# Altium schematic symbol library Schlib1.SchLib: 15 symbols
Pins are listed as number, name and electrical type; pins without a type are passive.

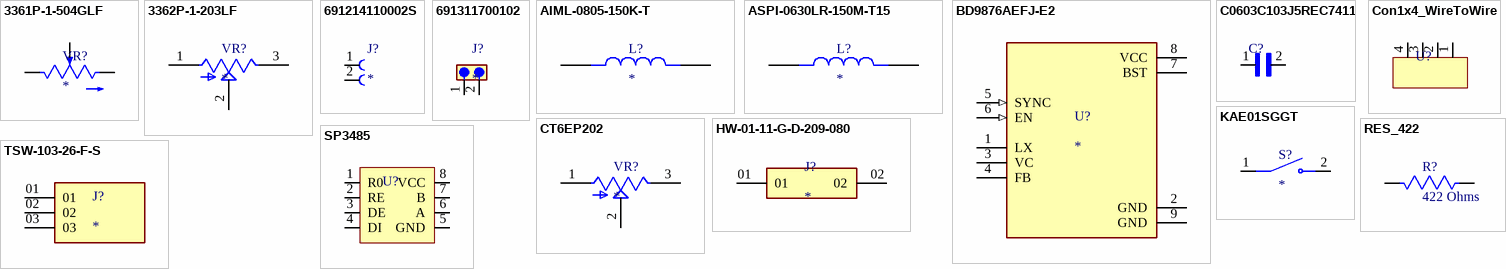
[diagram p0: symbols 3361P-1-504GLF to TSW-103-26-F-S]

## 3361P-1-504GLF
designator VR?
500 kOhms 0.5W, 1/2W Gull Wing Surface Mount Trimmer Potentiometer Cermet 1.0 Turn Top Adjustment; MF: Bourns; MP: 3361P-1-504GLF; Check_prices: https://www.snapeda.com/parts/3361P-1-504GLF/Bourns/view-part/?ref=eda; Digi-Key_Part_Number: 3361P-1-504GLFTR-ND; Package: 3361P Bourns; Value: *; Purchase-URL: https://pricing.snapeda.com/search/part/3361P-1-504GLF/?ref=eda; SnapEDA_Link: https://www.snapeda.com/parts/3361P-1-504GLF/Bourns/view-part/?ref=snap
footprint TRIM_3361P-1-504GLF
pins: 1 CCW, 2 WIPER, 3 CW

## 3362P-1-203LF
designator VR?
20 kOhms 0.5W, 1/2W PC Pins Through Hole Trimmer Potentiometer Cermet 1 Turn Top Adjustment; MP: 3362P-1-203LF; MF: Bourns; Value: *; Check_prices: https://www.snapeda.com/parts/3362P-1-203LF/Bourns/view-part/512040/?ref=eda; Package: 3116 Bourns; Purchase-URL: https://pricing.snapeda.com/search/part/3362P-1-203LF/?ref=eda; SnapEDA_Link: https://www.snapeda.com/parts/3362P-1-203LF/Bourns/view-part/512040/?ref=snap; Digi-Key_Part_Number: 3362P-203LF-ND
footprint TRIM_3362P-1-203LF
footprint TRIM_3362P-1-203LF
pins: 1 CCW, 2 WIPER, 3 CW

## 691214110002S
designator J?
2 Position Wire to Board Terminal Block Horizontal with Board 0.138 (3.50mm) Through Hole; MF: WÃ¼rth Elektronik; MP: 691214110002S; Check_prices: https://www.snapeda.com/parts/691214110002S/Wurth+Elektronik/view-part/?ref=eda; Availability: In Stock; Price: None; Package: None; Value: *; SnapEDA_Link: https://www.snapeda.com/parts/691214110002S/Wurth+Elektronik/view-part/?ref=snap; Purchase-URL: https://pricing.snapeda.com/search/part/691214110002S/?ref=eda
footprint 691214110002S
pins: 1, 2

## 691311700102
designator J?
2 Position Terminal Block Header, Male Pins, Shrouded (4 Side) 0.197 (5.00mm) Vertical - Through Hole; MF: WÃ¼rth Elektronik; MP: 691311700102; Value: *; Check_prices: https://www.snapeda.com/parts/691311700102/Wurth+Elektronik/view-part/?ref=eda; Availability: In Stock; Package: None; SnapEDA_Link: https://www.snapeda.com/parts/691311700102/Wurth+Elektronik/view-part/?ref=snap; Purchase-URL: https://pricing.snapeda.com/search/part/691311700102/?ref=eda; Price: None
footprint 691311700102
pins: 1, 2

## AIML-0805-150K-T
designator L?
IND 15uH 0.005A 800mâ„¦; MP: AIML-0805-150K-T; MF: Abracon; SnapEDA_Link: https://www.snapeda.com/parts/AIML-0805-150K-T/Abracon+LLC/view-part/?ref=snap; Availability: In Stock; Purchase-URL: https://pricing.snapeda.com/search/part/AIML-0805-150K-T/?ref=eda; Price: None; Value: *; Check_prices: https://www.snapeda.com/parts/AIML-0805-150K-T/Abracon+LLC/view-part/?ref=eda; Package: 2012 Bourns
footprint INDC2012X145N
pins: 1, 2

## ASPI-0630LR-150M-T15
designator L?
15 ÂµH Shielded Molded Inductor 3 A 120mOhm Max Nonstandard; MF: Abracon LLC; MP: ASPI-0630LR-150M-T15; Check_prices: https://www.snapeda.com/parts/ASPI-0630LR-150M-T15/Abracon+LLC/view-part/?ref=eda; Digi-Key_Part_Number: ASPI-0630LR-150M-T15TR-ND; Value: *; SnapEDA_Link: https://www.snapeda.com/parts/ASPI-0630LR-150M-T15/Abracon+LLC/view-part/?ref=snap; Package: Nonstandard Abracon LLC; Purchase-URL: https://pricing.snapeda.com/search/part/ASPI-0630LR-150M-T15/?ref=eda
footprint IND_ASPI-0630LR-150M-T15
pins: 1, 2

## BD9876AEFJ-E2
designator U?
Buck Switching Regulator IC Positive Adjustable 1V 1 Output 3A 8-SOIC (0.154, 3.90mm Width) Exposed Pad; MF: Rohm; MP: BD9876AEFJ-E2; Availability: Bad; Package: SOIC-8 Rohm; Price: None; SnapEDA_Link: https://www.snapeda.com/parts/BD9876AEFJ-E2/Rohm/view-part/78992/?ref=snap; Value: *
footprint SOIC127P600X100-9N
pins: 1 LX, 2 GND (power), 3 VC, 4 FB, 5 SYNC (in), 6 EN (in), 7 BST (power), 8 VCC (power), 9 GND (power)

## C0603C103J5REC7411
designator C?  (value not drawn)
10000pF Â±5% 50V Ceramic Capacitor X7R 0603 (1608 Metric); MF: KEMET; DigiKey-Purchase-URL: https://snapeda.com/shop?store=DigiKey&id=2066766; MP: C0603C103J5REC7411; Availability: Unavailable; Package: 1608 KEMET; Value: *; Price: None; SnapEDA_Link: https://www.snapeda.com/parts/C0603C103J5REC7411/KEMET/view-part/2066766/?ref=snap
footprint CAPC1608X87N
pins: 1, 2

## Con1x4_WireToWire
designator U?, comment B04B-XASK-1(LF)(SN)  (value not drawn)
1x4P XA 1 2.5mm 4 Copper Alloy Plugin,P=2.5mm Wire To Board / Wire To Wire Connector ROHS
footprint Con1x4_WireToWire
pins: 1, 2, 3, 4

## CT6EP202
designator VR?
±10% 2kΩ Plugin Variable Resistors/Potentiometers ROHS
footprint CT6EP202
pins: 1 CCW, 2 WIPER, 3 CW

## HW-01-11-G-D-209-080
designator J?
CONN HDR 2POS STACK T/H; MF: Samtec; MP: HW-01-11-G-D-209-080; Purchase-URL: https://pricing.snapeda.com/search/part/HW-01-11-G-D-209-080/?ref=eda; Value: *; Package: None; Check_prices: https://www.snapeda.com/parts/HW-01-11-G-D-209-080/Samtec/view-part/?ref=eda; Price: None; Availability: In Stock; SnapEDA_Link: https://www.snapeda.com/parts/HW-01-11-G-D-209-080/Samtec/view-part/?ref=snap
footprint SAMTEC_HW-01-11-G-D-209-080
pins: 01, 02

## KAE01SGGT
designator S?
Dip Switch SPST 1 Position Surface Mount Slide (Standard) Actuator 25mA 24VDC; MP: KAE01SGGT; MF: E-Switch; Check_prices: https://www.snapeda.com/parts/KAE01SGGT/E-Switch/view-part/?ref=eda; Value: *; Availability: In Stock; Price: None; Package: None; SnapEDA_Link: https://www.snapeda.com/parts/KAE01SGGT/E-Switch/view-part/?ref=snap; Purchase-URL: https://pricing.snapeda.com/search/part/KAE01SGGT/?ref=eda
footprint SW_KAE01SGGT
pins: 1, 2

## RES_422
designator R?, comment 422 Ohms
1W Thick Film Resistors 200V ±100ppm/℃ ±1% -55℃~+155℃ 422Ω 2512 Chip Resistor - Surface Mount ROHS
footprint RES_422
pins: 1 CCW, 2 CW

## SP3485
designator U?  (value not drawn)
footprint SP3485
pins: 1 R0, 2 RE, 3 DE, 4 DI, 5 GND, 6 A, 7 B, 8 VCC

## TSW-103-26-F-S
designator J?
MP: TSW-103-26-F-S; Package: None; Price: None; Value: *; Availability: Unavailable
footprint SAMTEC_TSW-103-26-F-S
pins: 01, 02, 03